# Altium schematic symbol library MCP4728.SchLib: 1 symbol
Pins are listed as number, name and electrical type; pins without a type are passive.

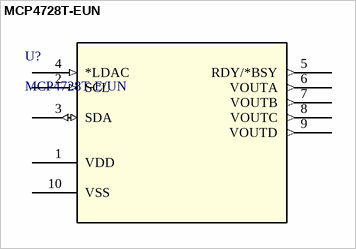
[diagram p0: symbol MCP4728T-EUN]

## MCP4728T-EUN
designator U?, comment MCP4728T-E/UN
Description; Manufacturer_Name: Microchip; Copyright: Copyright (C) 2026 Ultra Librarian. All rights reserved.; Manufacturer_Part_Number: MCP4728T-E/UN; RefDes: RefDes; Type: Type
footprint MSOP10_MC_MCH
pins: 1 VDD (power), 2 SCL (in), 3 SDA (io), 4 *LDAC (in), 5 RDY/*BSY (out), 6 VOUTA (out), 7 VOUTB (out), 8 VOUTC (out), 9 VOUTD (out), 10 VSS (power)